# Altium schematic symbol library WE_FISM_177920511.SchLib: 1 symbol
Pins are listed as number, name and electrical type; pins without a type are passive.

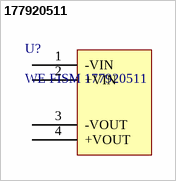
[diagram p0: symbol 177920511]

## 177920511
designator U?, comment WE FISM 177920511
footprint FISM_17792XXX1
pins: 1 -VIN (power), 2 +VIN (power), 3 -VOUT (power), 4 +VOUT (power)